# Altium footprint library SOIC-4_W.PcbLib: 1 footprints
Each footprint in its own frame and in the unit in brackets; x right, y up, seen from the top. Pads: shape width x height; smd on the part's side, far side on the other; paste and mask are expansions set on the pad; w line width, h text height; cw(c..) or ccw(c..) is an arc to the next point about the centre after c.
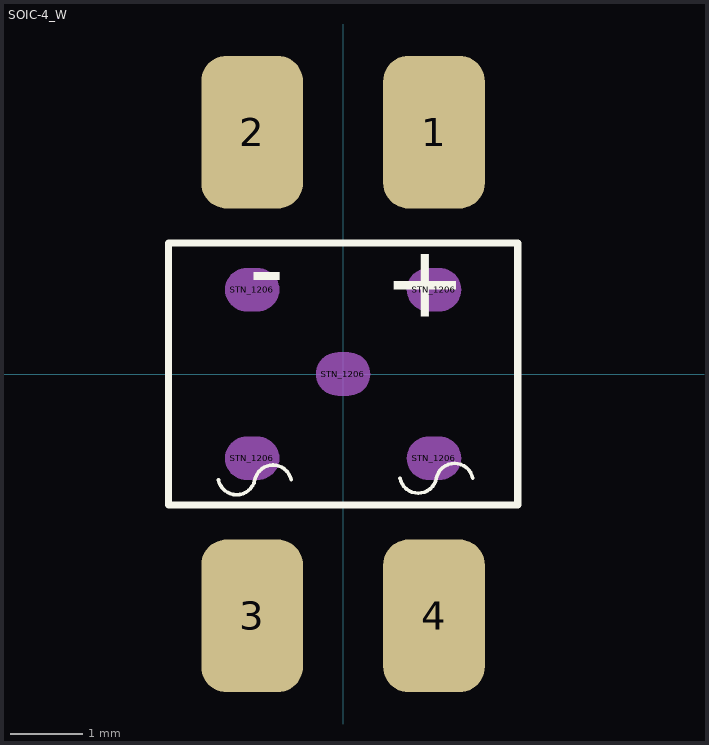
[diagram p0: the footprint, top view; thin cyan lines are the x and y axes]

## SOIC-4_W [mm]
height 2.5
pads (9):
  rrect50% 1.4x2.1 smd: 1(1.25,3.325) 2(-1.25,3.325) 3(-1.25,-3.325) 4(1.25,-3.325)
  oval 0.75x0.6 on Mech2 mask+0: STN_1206(-1.25,-1.159) STN_1206(-1.25,1.159) STN_1206(0,0) STN_1206(1.25,-1.159) STN_1206(1.25,1.159)
Top Overlay:
  lines w0.05: -1.714,-1.456 ccw(c-1.464,-1.406) -1.214,-1.456 cw(c-0.964,-1.506) -0.714,-1.456 ; 0.783,-1.434 ccw(c1.033,-1.384) 1.283,-1.434 cw(c1.533,-1.484) 1.783,-1.434
  lines w0.1: -2.4,-1.8 2.4,-1.8 2.4,1.8 -2.4,1.8 -2.4,-1.8
  text "-" at -0.805,1.72 h1
  text "+" at 1.7,1.65 h1
3D body "SOIC-4 (Fairchild).STEP": height 1.75, standoff 0, extent -2.35,-3.1 2.35,3.1